# EAGLE library part XC6804 (library Particle)
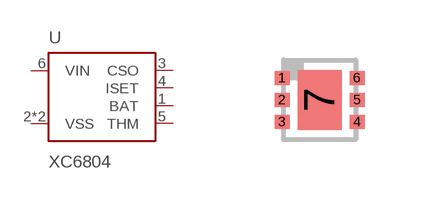
[diagram p37: symbol with the pads of USP-6EL; footprint USP-6EL]

Designator prefix U

## XC6804USP-6EL  [USP-6EL]
1  BAT  pwr
2  VSS  pwr
3  CSO
4  ISET
5  THM
6  VIN  pwr
7  VSS  pwr

## Footprint USP-6EL (pad centres in mm)
smd 0.375 x 0.35: 1 -0.938,0.55; 2 -0.938,0; 3 -0.938,-0.55; 4 0.938,-0.55; 5 0.938,0; 6 0.938,0.55
smd 1.1 x 1.5: 7 0,0